# EAGLE library part INA219 (library Arduino Electronic Load)
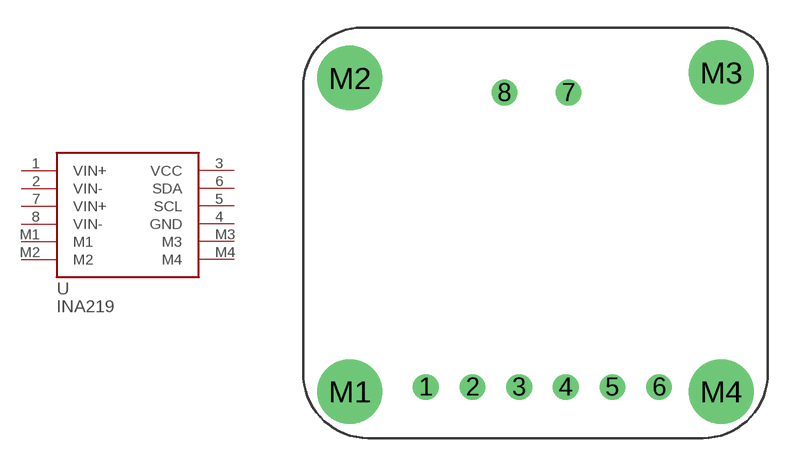
[diagram p2: symbol with the pads of INA219; footprint INA219]

Designator prefix U

## INA219  [INA219]
1  VIN+
2  VIN-
3  VCC
4  GND
5  SCL
6  SDA
7  VIN+
8  VIN-
M1  M1
M2  M2
M3  M3
M4  M4

## Footprint INA219 (pad centres in mm)
drill 0.889: 1 -5.965,2.781; 2 -3.425,2.781; 3 -0.885,2.781; 4 1.643,2.781; 5 4.183,2.781; 6 6.723,2.781; 7 1.79,18.81; 8 -1.69,18.81
drill 2.5: M1 -10.1,2.54; M2 -10.1,19.6; M3 10.1,19.9; M4 10.1,2.54